# EAGLE library part DB26 (library FPGA_FOC_lib)
Dsub-26 connector
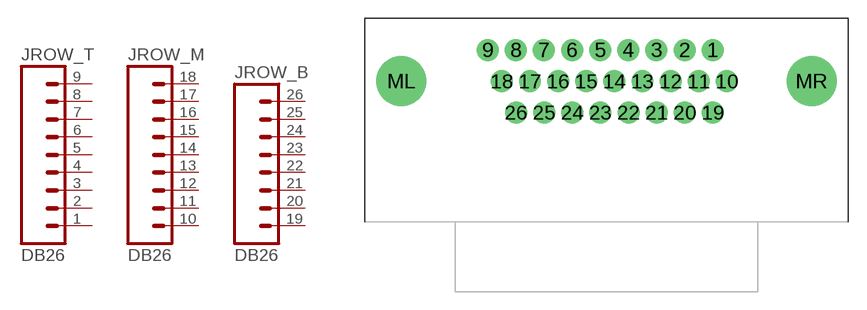
[diagram p4: symbol with the pads of L17HTHA; footprint L17HTHA]

Designator prefix J; gates ROW_T=M09 ROW_M=M09 ROW_B=M08

## DB26_RA-HD-PTH  [L17HTHA]
1  ROW_T:1  pas
2  ROW_T:2  pas
3  ROW_T:3  pas
4  ROW_T:4  pas
5  ROW_T:5  pas
6  ROW_T:6  pas
7  ROW_T:7  pas
8  ROW_T:8  pas
9  ROW_T:9  pas
10  ROW_M:1  pas
11  ROW_M:2  pas
12  ROW_M:3  pas
13  ROW_M:4  pas
14  ROW_M:5  pas
15  ROW_M:6  pas
16  ROW_M:7  pas
17  ROW_M:8  pas
18  ROW_M:9  pas
19  ROW_B:1  pas
20  ROW_B:2  pas
21  ROW_B:3  pas
22  ROW_B:4  pas
23  ROW_B:5  pas
24  ROW_B:6  pas
25  ROW_B:7  pas
26  ROW_B:8  pas

## Footprint L17HTHA (pad centres in mm)
Drawing for amphenol DB26, right angle, high density, through hole, board lock connector digikey <https://www.digikey.com/product-detail/en/amphenol-icc-commercial-products/L17HTHAS4F1C/L17HTHAS4F1C-ND/4884969> catalog with drawings <https://signin.amphenolcanada.com/ProductSearch/Pdf/DSUB_CAT.pdf#Page=71> see page 73
drill 1.19: 1 8.63,13.97; 2 6.345,13.97; 3 4.06,13.97; 4 1.775,13.97; 5 -0.51,13.97; 6 -2.795,13.97; 7 -5.08,13.97; 8 -7.365,13.97; 9 -9.65,13.97; 10 9.78,11.43; 11 7.495,11.43; 12 5.21,11.43; 13 2.925,11.43; 14 0.64,11.43; 15 -1.645,11.43; 16 -3.93,11.43; 17 -6.215,11.43; 18 -8.5,11.43; 19 8.65,8.89; 20 6.365,8.89; 21 4.08,8.89; 22 1.795,8.89; 23 -0.49,8.89; 24 -2.775,8.89; 25 -5.06,8.89; 26 -7.345,8.89
drill 3.05: ML -16.66,11.43; MR 16.66,11.43